# Altium schematic symbol library PINA350ABSIDDFR.SchLib: 1 symbol
Pins are listed as number, name and electrical type; pins without a type are passive.

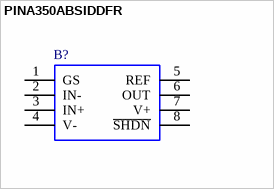
[diagram p0: symbol PINA350ABSIDDFR]

## PINA350ABSIDDFR
designator B?
INA350 Cost and Size Optimized, Low Power, 1.8-V to 5.5-V Selectable Gain Instrumentation Amplifier; Manufacturer_Name: Texas Instruments; Geometry.Height: 1.1mm; Manufacturer_Part_Number: PINA350ABSIDDFR; Mouser Part Number: *; Mouser Price/Stock: *; Arrow Part Number: *; Arrow Price/Stock: *; Mouser Testing Part Number: *; Mouser Testing Price/Stock: *; Datasheet Link: https://www.ti.com/lit/ds/symlink/ina350.pdf?ts=1645143706286&ref_url=https%253A%252F%252Fwww.ti.com%252Fproduct%252FINA350
footprint SOT65P280X110-8N
pins: 1 GS, 2 IN-, 3 IN+, 4 V-, 5 REF, 6 OUT, 7 V+, 8 ~{SHDN}